# EAGLE library part TLV61046A (library ICs)
TLV61046A 28-V Output Voltage Boost Converter with Power Diode and Isolation Switch
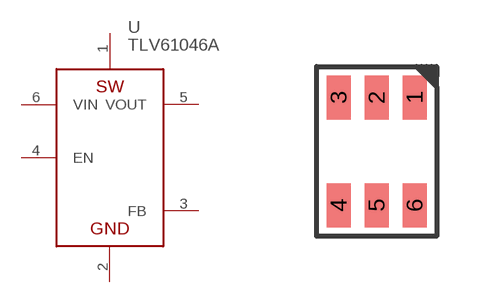
[diagram p187: symbol with the pads of SOT23-6; footprint SOT23-6]

Designator prefix U

## TLV61046ADBVR (DIGIKEY: 296-47674-1-ND; HEIGHT: 1.5; PRICE_PER: 0.81; VALUE: TLV61046A)  [SOT23-6]
1  SW
2  GND
3  FB
4  EN
5  VOUT
6  VIN

## Footprint SOT23-6 (pad centres in mm)
smd 0.6 x 1.1: 1 0.95,1.35; 2 0,1.35; 3 -0.95,1.35; 4 -0.95,-1.35; 5 0,-1.35; 6 0.95,-1.35